# EAGLE library part 128X64-GLCD-C (library Eagle3D-Displays)
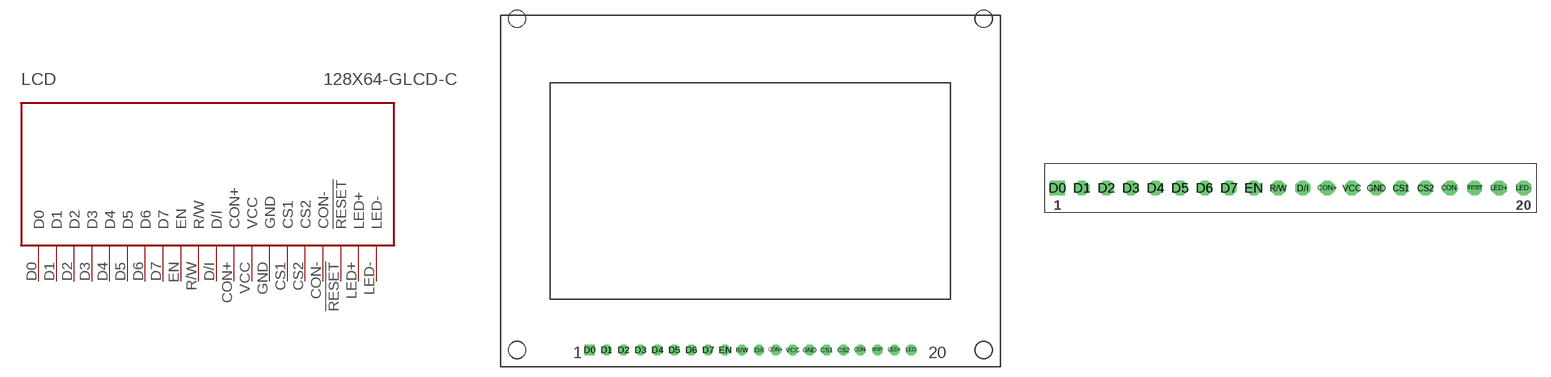
[diagram p4: symbol with the pads of 128X64-GLCD-C; footprints 128X64-GLCD-C, 128X64-GLCD-C-PINS]

Designator prefix LCD

## 128X64-GLCD-C  [128X64-GLCD-C]
!RESET  !RESET
CON+  CON+
CON-  CON-
CS1  CS1
CS2  CS2
D0  D0
D1  D1
D2  D2
D3  D3
D4  D4
D5  D5
D6  D6
D7  D7
D/I  D/I
EN  EN
GND  GND  pwr
LED+  LED+
LED-  LED-
R/W  R/W
VCC  VCC  pwr

## 128X64-GLCD-C-PINS  [128X64-GLCD-C-PINS]
Pads as for 128X64-GLCD-C

## Footprint 128X64-GLCD-C (pad centres in mm)
drill 1.016 octagon: !RESET 17.78,-25.4; CON+ 2.54,-25.4; CON- 15.24,-25.4; CS1 10.16,-25.4; CS2 12.7,-25.4; D1 -22.86,-25.4; D2 -20.32,-25.4; D3 -17.78,-25.4; D4 -15.24,-25.4; D5 -12.7,-25.4; D6 -10.16,-25.4; D7 -7.62,-25.4; D/I 0,-25.4; EN -5.08,-25.4; GND 7.62,-25.4; LED+ 20.32,-25.4; LED- 22.86,-25.4; R/W -2.54,-25.4; VCC 5.08,-25.4
drill 1.016 square: D0 -25.4,-25.4
hole 2.5 at -36.3,-25.4
hole 2.5 at -36.3,24.3
hole 2.5 at 33.7,24.3
hole 2.5 at 33.7,-25.4

## Footprint 128X64-GLCD-C-PINS (pad centres in mm)
drill 1.016 octagon: !RESET 19.05,0; CON+ 3.81,0; CON- 16.51,0; CS1 11.43,0; CS2 13.97,0; D1 -21.59,0; D2 -19.05,0; D3 -16.51,0; D4 -13.97,0; D5 -11.43,0; D6 -8.89,0; D7 -6.35,0; D/I 1.27,0; EN -3.81,0; GND 8.89,0; LED+ 21.59,0; LED- 24.13,0; R/W -1.27,0; VCC 6.35,0
drill 1.016 square: D0 -24.13,0